# Altium footprint library 3587.PcbLib: 1 footprints
Each footprint in its own frame and in the unit in brackets; x right, y up, seen from the top. Pads: shape width x height; smd on the part's side, far side on the other; paste and mask are expansions set on the pad; w line width, h text height; cw(c..) or ccw(c..) is an arc to the next point about the centre after c.
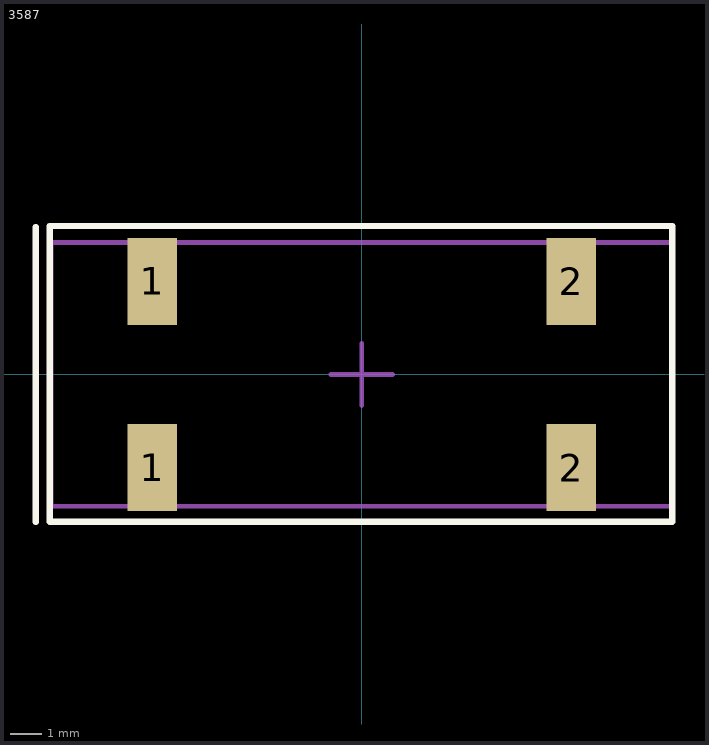
[diagram p0: the footprint, top view; thin cyan lines are the x and y axes]

## 3587 [mm]
pads (4):
  rect 1.6x2.8 smd mask+0.051: 1(-6.75,-3) 1(-6.75,3) 2(6.75,-3) 2(6.75,3)
Top Overlay:
  lines w0.2: -10.5,-4.75 -10.5,4.75 ; -10.052,-4.747 10,-4.747 10,4.778 -10.052,4.778 -10.052,-4.747
Mechanical 13:
  lines w0.15: -10,-4.25 10,-4.25 10,4.25 -10,4.25 -10,-4.25
Mechanical 15:
  lines w0.15: 0,-1 0,0 ; 0,0 -1,0 0,0 ; 0,0 0,1 0,0 ; 0,0 1,0 0,0
3D body "3587.step": height 8.06, standoff 0.01, extent -9.906,-4.336 9.906,4.3